# Altium schematic symbol library Modelos_Simbolo.SchLib: 16 symbols
Pins are listed as number, name and electrical type; pins without a type are passive.

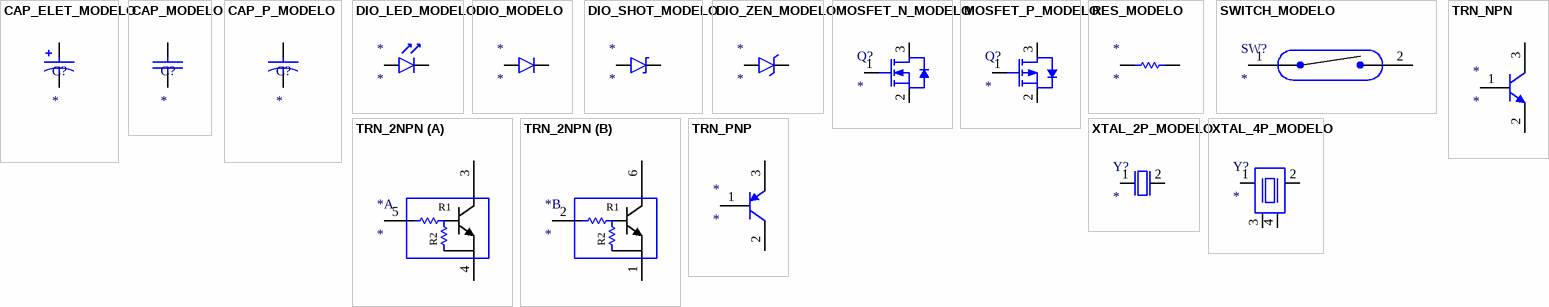
[diagram p0: symbols CAP_ELET_MODELO to XTAL_4P_MODELO]

## CAP_ELET_MODELO
designator C?
pins: 1, 2

## CAP_MODELO
designator C?
pins: 1, 2

## CAP_P_MODELO
designator C?
pins: 1, 2

## DIO_LED_MODELO
designator *
pins: 1 A, 2 K

## DIO_MODELO
designator *
pins: 1 A, 2 K

## DIO_SHOT_MODELO
designator *
pins: 1 A, 2 K

## DIO_ZEN_MODELO
designator *
pins: 1 A, 2 K

## MOSFET_N_MODELO
designator Q?
Valor: *
pins: 1 G, 2 S, 3 D

## MOSFET_P_MODELO
designator Q?
Valor: *
pins: 1 G, 2 S, 3 D

## RES_MODELO
designator *
pins: 1, 2

## SWITCH_MODELO
designator SW?
Valor: *
pins: 1, 2

## TRN_2NPN
designator *
part A pins: 3 C, 4 E, 5 B
part B pins: 1 E, 2 B, 6 C
part A text: R1; R2
part B text: R1; R2

## TRN_NPN
designator *
pins: 1 B, 2 E, 3 C

## TRN_PNP
designator *
pins: 1 B, 2 E, 3 C

## XTAL_2P_MODELO
designator Y?
pins: 1, 2

## XTAL_4P_MODELO
designator Y?
pins: 1, 2, 3, 4